# EAGLE library part PHB_1MM27_2X15_* (library _hhn_con_pinhead_box_1mm27)
Pin Header Box-Type, 1.27mm/0.5"/50mil Pitch, 2x15 Circuits Note: see library description for an important note about THT-version
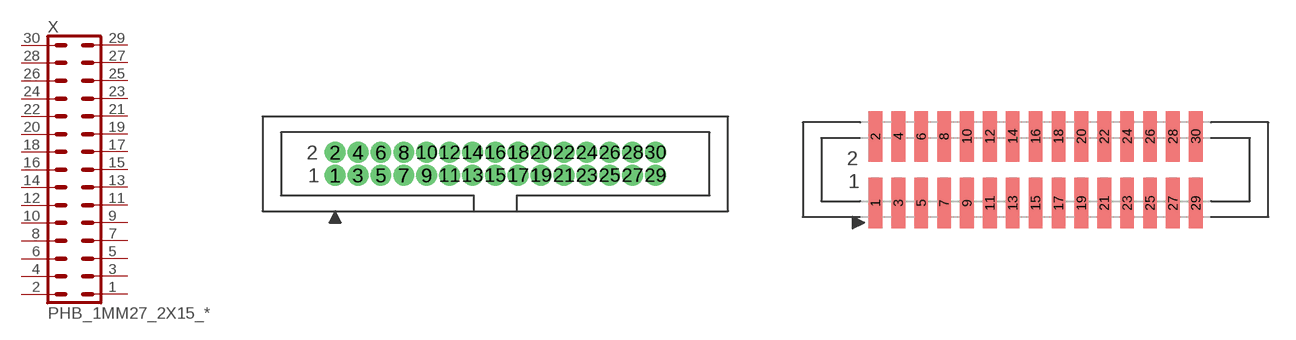
[diagram p10: symbol with the pads of PHB_1MM27_2X15_SNT; footprints PHB_1MM27_2X15_SNT, PHB_1MM27_2X15_SNS]

Designator prefix X

## PHB_1MM27_2X15_SNT  [PHB_1MM27_2X15_SNT]
1  1  pas
2  2  pas
3  3  pas
4  4  pas
5  5  pas
6  6  pas
7  7  pas
8  8  pas
9  9  pas
10  10  pas
11  11  pas
12  12  pas
13  13  pas
14  14  pas
15  15  pas
16  16  pas
17  17  pas
18  18  pas
19  19  pas
20  20  pas
21  21  pas
22  22  pas
23  23  pas
24  24  pas
25  25  pas
26  26  pas
27  27  pas
28  28  pas
29  29  pas
30  30  pas

## PHB_1MM27_2X15_SNS  [PHB_1MM27_2X15_SNS]
Pads as for PHB_1MM27_2X15_SNT

## Footprint PHB_1MM27_2X15_SNT (pad centres in mm)
Pin Header Box-Type, 1.27mm Pitch, 2x15 circuits, Straight, No Locking, THT Important Note regarding to THT-versions: see description of library
drill 0.65 round: 1 -8.89,-0.635; 2 -8.89,0.635; 3 -7.62,-0.635; 4 -7.62,0.635; 5 -6.35,-0.635; 6 -6.35,0.635; 7 -5.08,-0.635; 8 -5.08,0.635; 9 -3.81,-0.635; 10 -3.81,0.635; 11 -2.54,-0.635; 12 -2.54,0.635; 13 -1.27,-0.635; 14 -1.27,0.635; 15 0,-0.635; 16 0,0.635; 17 1.27,-0.635; 18 1.27,0.635; 19 2.54,-0.635; 20 2.54,0.635; 21 3.81,-0.635; 22 3.81,0.635; 23 5.08,-0.635; 24 5.08,0.635; 25 6.35,-0.635; 26 6.35,0.635; 27 7.62,-0.635; 28 7.62,0.635; 29 8.89,-0.635; 30 8.89,0.635

## Footprint PHB_1MM27_2X15_SNS (pad centres in mm)
Pin Header Box-Type, 1.27mm Pitch, 2x15 circuits, Straight, No Locking, SMT
smd 0.76 x 2.8: 1 -8.89,-1.85; 2 -8.89,1.85; 3 -7.62,-1.85; 4 -7.62,1.85; 5 -6.35,-1.85; 6 -6.35,1.85; 7 -5.08,-1.85; 8 -5.08,1.85; 9 -3.81,-1.85; 10 -3.81,1.85; 11 -2.54,-1.85; 12 -2.54,1.85; 13 -1.27,-1.85; 14 -1.27,1.85; 15 0,-1.85; 16 0,1.85; 17 1.27,-1.85; 18 1.27,1.85; 19 2.54,-1.85; 20 2.54,1.85; 21 3.81,-1.85; 22 3.81,1.85; 23 5.08,-1.85; 24 5.08,1.85; 25 6.35,-1.85; 26 6.35,1.85; 27 7.62,-1.85; 28 7.62,1.85; 29 8.89,-1.85; 30 8.89,1.85